# EAGLE library part LT3071 (library PowerProducts)
LT-Spice library generated with : ltspice.ulp from: E:/Programme/LTC/LTspiceIV/lib/sym/PowerProducts/LT3080-1*.asy at 05.10.2012 11:08:12
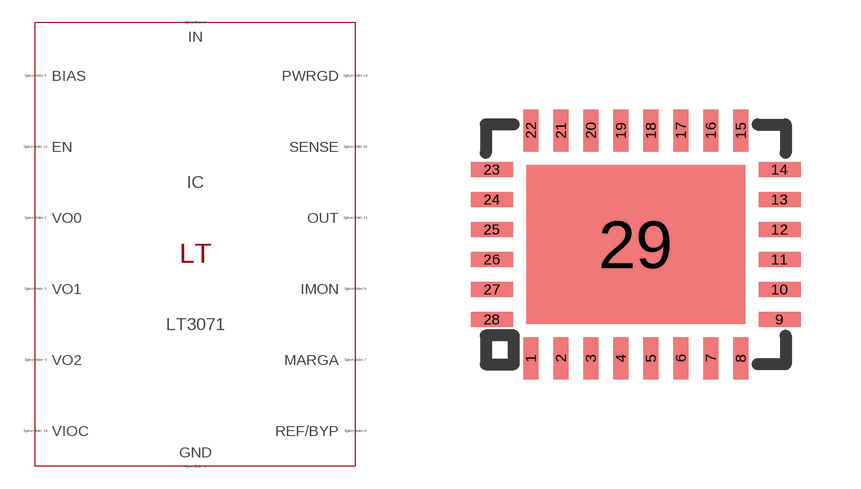
[diagram p30: symbol with the pads of QFN28(UFD); footprint QFN28(UFD)]

Designator prefix IC

## LT3071 (SPICEMODEL: LT1762.lib; SPICEPREFIX: X; VALUE2: LT1762)  [QFN28(UFD)]
1  VIOC  pas
2  PWRGD  pas
3  REF/BYP  pas
4  GND  pas
5  IN  pas
6  IN  pas
7  IN  pas
8  IN  pas
9  GND  pas
10  GND  pas
11  GND  pas
12  GND  pas
13  GND  pas
14  GND  pas
15  OUT  pas
16  IN  pas
17  IN  pas
18  IN  pas
19  SENSE  pas
20  GND  pas
21  IMON  pas
22  MARGA  pas
23  VO0  pas
24  VO1  pas
25  VO2  pas
26  GND  pas
27  BIAS  pas
28  EN  pas
29  GND  pas

## Footprint QFN28(UFD) (pad centres in mm)
Package generated from: QFN28(UFD).asc (!PADS-POWERPCB-V5.0-BASIC! DESIGN DATABASE ASCII FILE 1.0) with :import-pads-powerpcb-v5.ulp Version 1.0.1 at 04.10.2012 14:11:25
smd 0.375 x 1.05: 1 -2.625,-2.85; 2 -1.875,-2.85; 3 -1.125,-2.85; 4 -0.375,-2.85; 5 0.375,-2.85; 6 1.125,-2.85; 7 1.875,-2.85; 8 2.625,-2.85; 15 2.625,2.85; 16 1.875,2.85; 17 1.125,2.85; 18 0.375,2.85; 19 -0.375,2.85; 20 -1.125,2.85; 21 -1.875,2.85; 22 -2.625,2.85
smd 1.05 x 0.375: 9 3.6,-1.875; 10 3.6,-1.125; 11 3.6,-0.375; 12 3.6,0.375; 13 3.6,1.125; 14 3.6,1.875; 23 -3.6,1.875; 24 -3.6,1.125; 25 -3.6,0.375; 26 -3.6,-0.375; 27 -3.6,-1.125; 28 -3.6,-1.875
smd 5.475 x 3.975: 29 0,0